# Altium integrated library Linear Technology Power Management LDO Linear Regulators.IntLib: 2339 symbols (part 124 of 131)
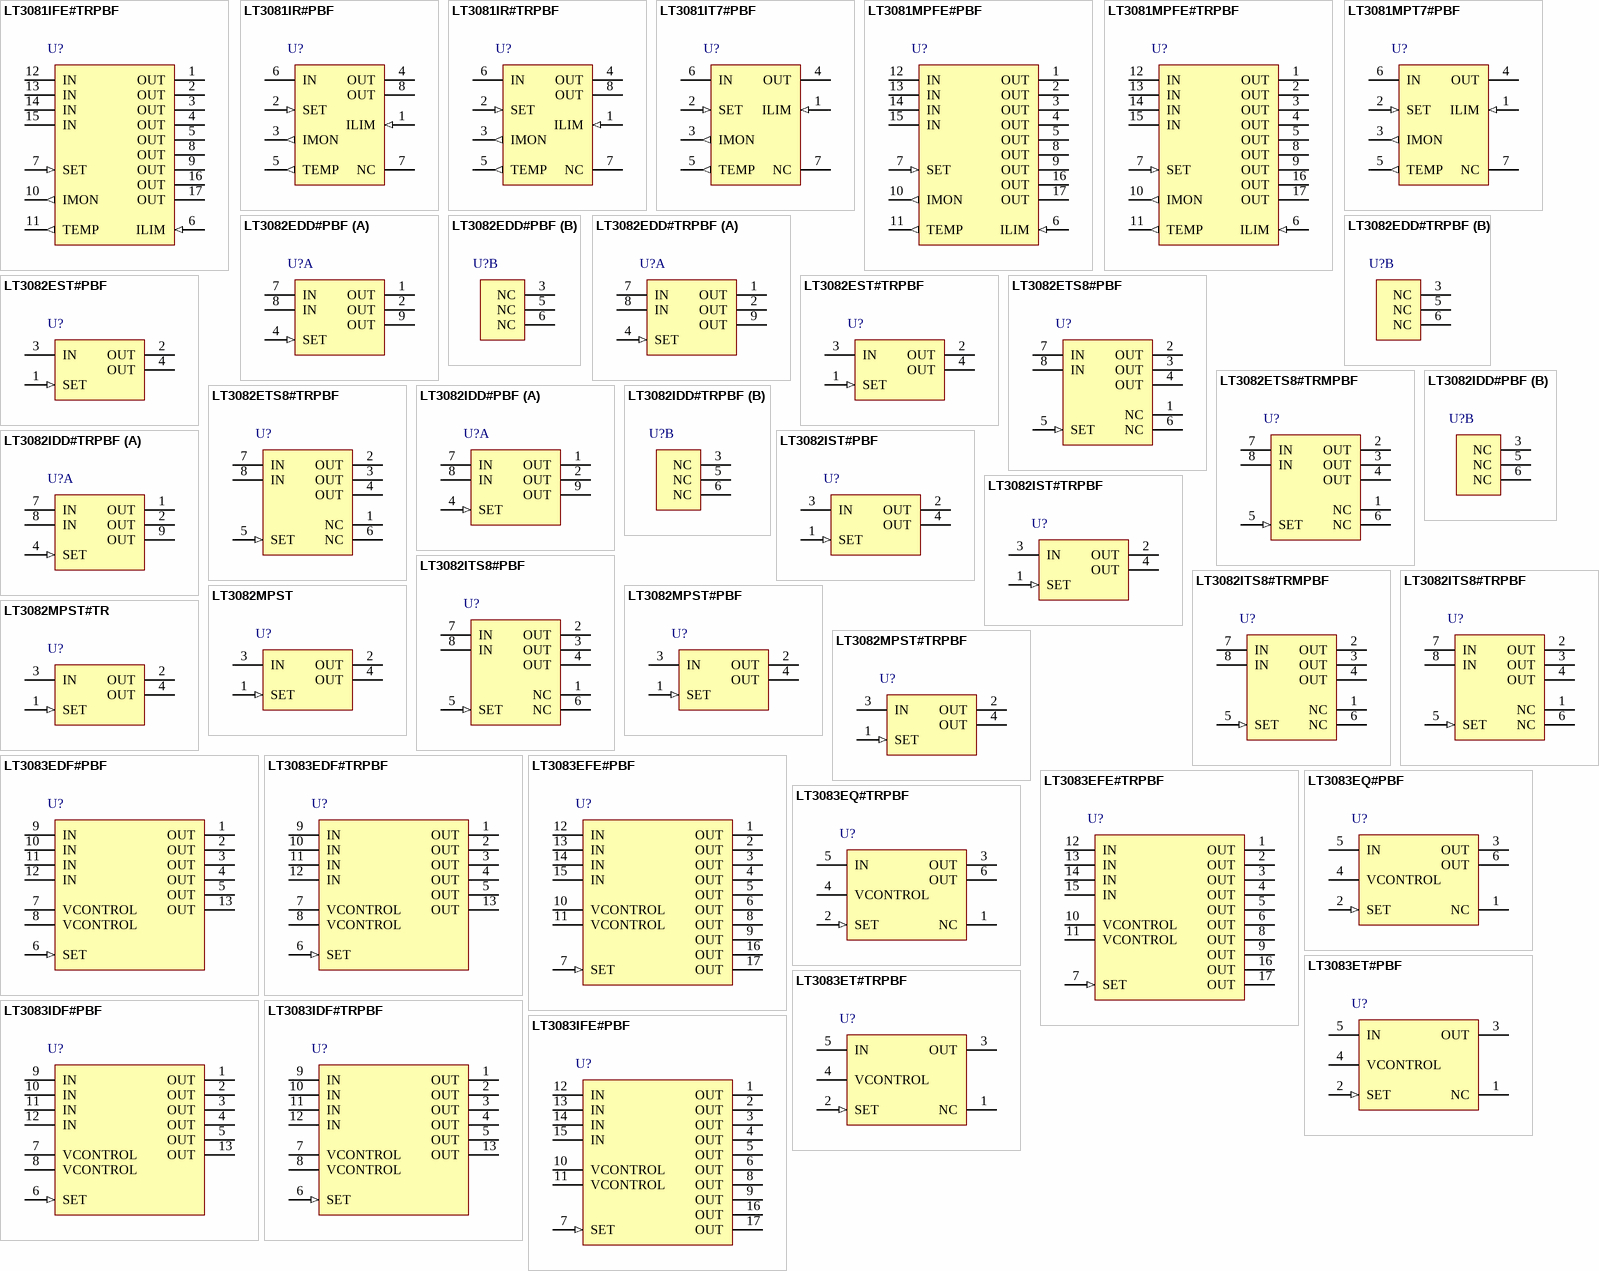
[diagram p192: symbols LT3081IFE#TRPBF to LT3083IFE#PBF]

## LT3083IFE#PBF
designator U?
3 A Single Resistor Low Dropout Regulator, 1.2 to 23 V Vin, Adjustable Vout, 16-pin SOP (FE-16-EPV-BB), -40 to 125 degC, Pb-Free; Manufacturer: Linear Technology; PartNumber: LT3083IFE#PBF; Discrete Pass Element: no; Dropout Voltage(V): 0.31; Iout(mA): 3000; Isupply(mA): 0.35; Noise(uV): 40; Number of Outputs: 1; Output Voltage: Adj; PSRR(dB): 85; Shutdown Current(uA): 0; Vin Max(V): 23; Vin Min(V): 1.2; DatasheetVersion: Rev. A; PackageVersion: Rev. J, 11/2012; PackageReference: FE-16; PackageDescription: 16-Pin Plastic TSSOP, Body 5 x 4.4 mm, Pitch 0.65 mm; Supplier 1: Digi-Key; Supplier Part Number 1: LT3083IFE#PBF-ND; RoHS: TRUE; Vout Max(V): 23; Vout Min(V): 0; Mounting Technology: Surface Mount; ComponentLink1Description: Manufacturer URL; ComponentLink1URL: http://www.linear.com/; ComponentLink2Description: Datasheet; ComponentLink2URL: http://cds.linear.com/docs/en/datasheet/3083fa.pdf; ComponentLink3Description: Package Specification; ComponentLink3URL: http://cds.linear.com/docs/en/packaging/05081663__J_FE16(BB).pdf
footprint LT-FE-16-EPV-BB_N (SOP, 16-Leads, Body 5.1x4.5mm, Pitch 0.65mm, Thermal Pad 3.58x2.94mm, IPC Medium Density)
footprint LT-FE-16-EPV-BB_L (SOP, 16-Leads, Body 5.1x4.5mm, Pitch 0.65mm, Thermal Pad 3.58x2.94mm, IPC High Density)
footprint LT-FE-16-EPV-BB_M (SOP, 16-Leads, Body 5.1x4.5mm, Pitch 0.65mm, Thermal Pad 3.58x2.94mm, IPC Low Density)
pins: 1 OUT (power) "Output. The exposed pad of the DF package (Pin 13) and the FE package (Pin 17) and the Tab of the DD-PAK and TO-220 packages is an electrical connection to OUT. Connect the exposed pad of the DF and FE packages and the Tab (See Datasheet)", 2 OUT (power) "Output. The exposed pad of the DF package (Pin 13) and the FE package (Pin 17) and the Tab of the DD-PAK and TO-220 packages is an electrical connection to OUT. Connect the exposed pad of the DF and FE packages and the Tab (See Datasheet)", 3 OUT (power) "Output. The exposed pad of the DF package (Pin 13) and the FE package (Pin 17) and the Tab of the DD-PAK and TO-220 packages is an electrical connection to OUT. Connect the exposed pad of the DF and FE packages and the Tab (See Datasheet)", 4 OUT (power) "Output. The exposed pad of the DF package (Pin 13) and the FE package (Pin 17) and the Tab of the DD-PAK and TO-220 packages is an electrical connection to OUT. Connect the exposed pad of the DF and FE packages and the Tab (See Datasheet)", 5 OUT (power) "Output. The exposed pad of the DF package (Pin 13) and the FE package (Pin 17) and the Tab of the DD-PAK and TO-220 packages is an electrical connection to OUT. Connect the exposed pad of the DF and FE packages and the Tab (See Datasheet)", 6 OUT (power) "Output. The exposed pad of the DF package (Pin 13) and the FE package (Pin 17) and the Tab of the DD-PAK and TO-220 packages is an electrical connection to OUT. Connect the exposed pad of the DF and FE packages and the Tab (See Datasheet)", 7 SET (in) "Set Point. This pin is the non-inverting input to the error amplifier and the regulation set point. A fixed current of 50uA flows out of this pin through a single external resistor, which programs the output voltage of the (See Datasheet)", 8 OUT (power) "Output. The exposed pad of the DF package (Pin 13) and the FE package (Pin 17) and the Tab of the DD-PAK and TO-220 packages is an electrical connection to OUT. Connect the exposed pad of the DF and FE packages and the Tab (See Datasheet)", 9 OUT (power) "Output. The exposed pad of the DF package (Pin 13) and the FE package (Pin 17) and the Tab of the DD-PAK and TO-220 packages is an electrical connection to OUT. Connect the exposed pad of the DF and FE packages and the Tab (See Datasheet)", 10 VCONTROL (power) "Bias Supply. This is the supply pin for the control circuitry of the device. Minimum input capacitance is 2.2uF (see Input Capacitance and Stability in the Applications Information section). The current flow into this pin is (See Datasheet)", 11 VCONTROL (power) "Bias Supply. This is the supply pin for the control circuitry of the device. Minimum input capacitance is 2.2uF (see Input Capacitance and Stability in the Applications Information section). The current flow into this pin is (See Datasheet)", 12 IN (power) "Power Input. This is the collector to the power device of the LT3083. The output load current is supplied through this pin. Minimum IN capacitance is 10uF (see Input Capacitance and Stability in Applications Information (See Datasheet)", 13 IN (power) "Power Input. This is the collector to the power device of the LT3083. The output load current is supplied through this pin. Minimum IN capacitance is 10uF (see Input Capacitance and Stability in Applications Information (See Datasheet)", 14 IN (power) "Power Input. This is the collector to the power device of the LT3083. The output load current is supplied through this pin. Minimum IN capacitance is 10uF (see Input Capacitance and Stability in Applications Information (See Datasheet)", 15 IN (power) "Power Input. This is the collector to the power device of the LT3083. The output load current is supplied through this pin. Minimum IN capacitance is 10uF (see Input Capacitance and Stability in Applications Information (See Datasheet)", 16 OUT (power) "Output. The exposed pad of the DF package (Pin 13) and the FE package (Pin 17) and the Tab of the DD-PAK and TO-220 packages is an electrical connection to OUT. Connect the exposed pad of the DF and FE packages and the Tab (See Datasheet)", 17 OUT (power) "Output. The exposed pad of the DF package (Pin 13) and the FE package (Pin 17) and the Tab of the DD-PAK and TO-220 packages is an electrical connection to OUT. Connect the exposed pad of the DF and FE packages and the Tab (See Datasheet)"

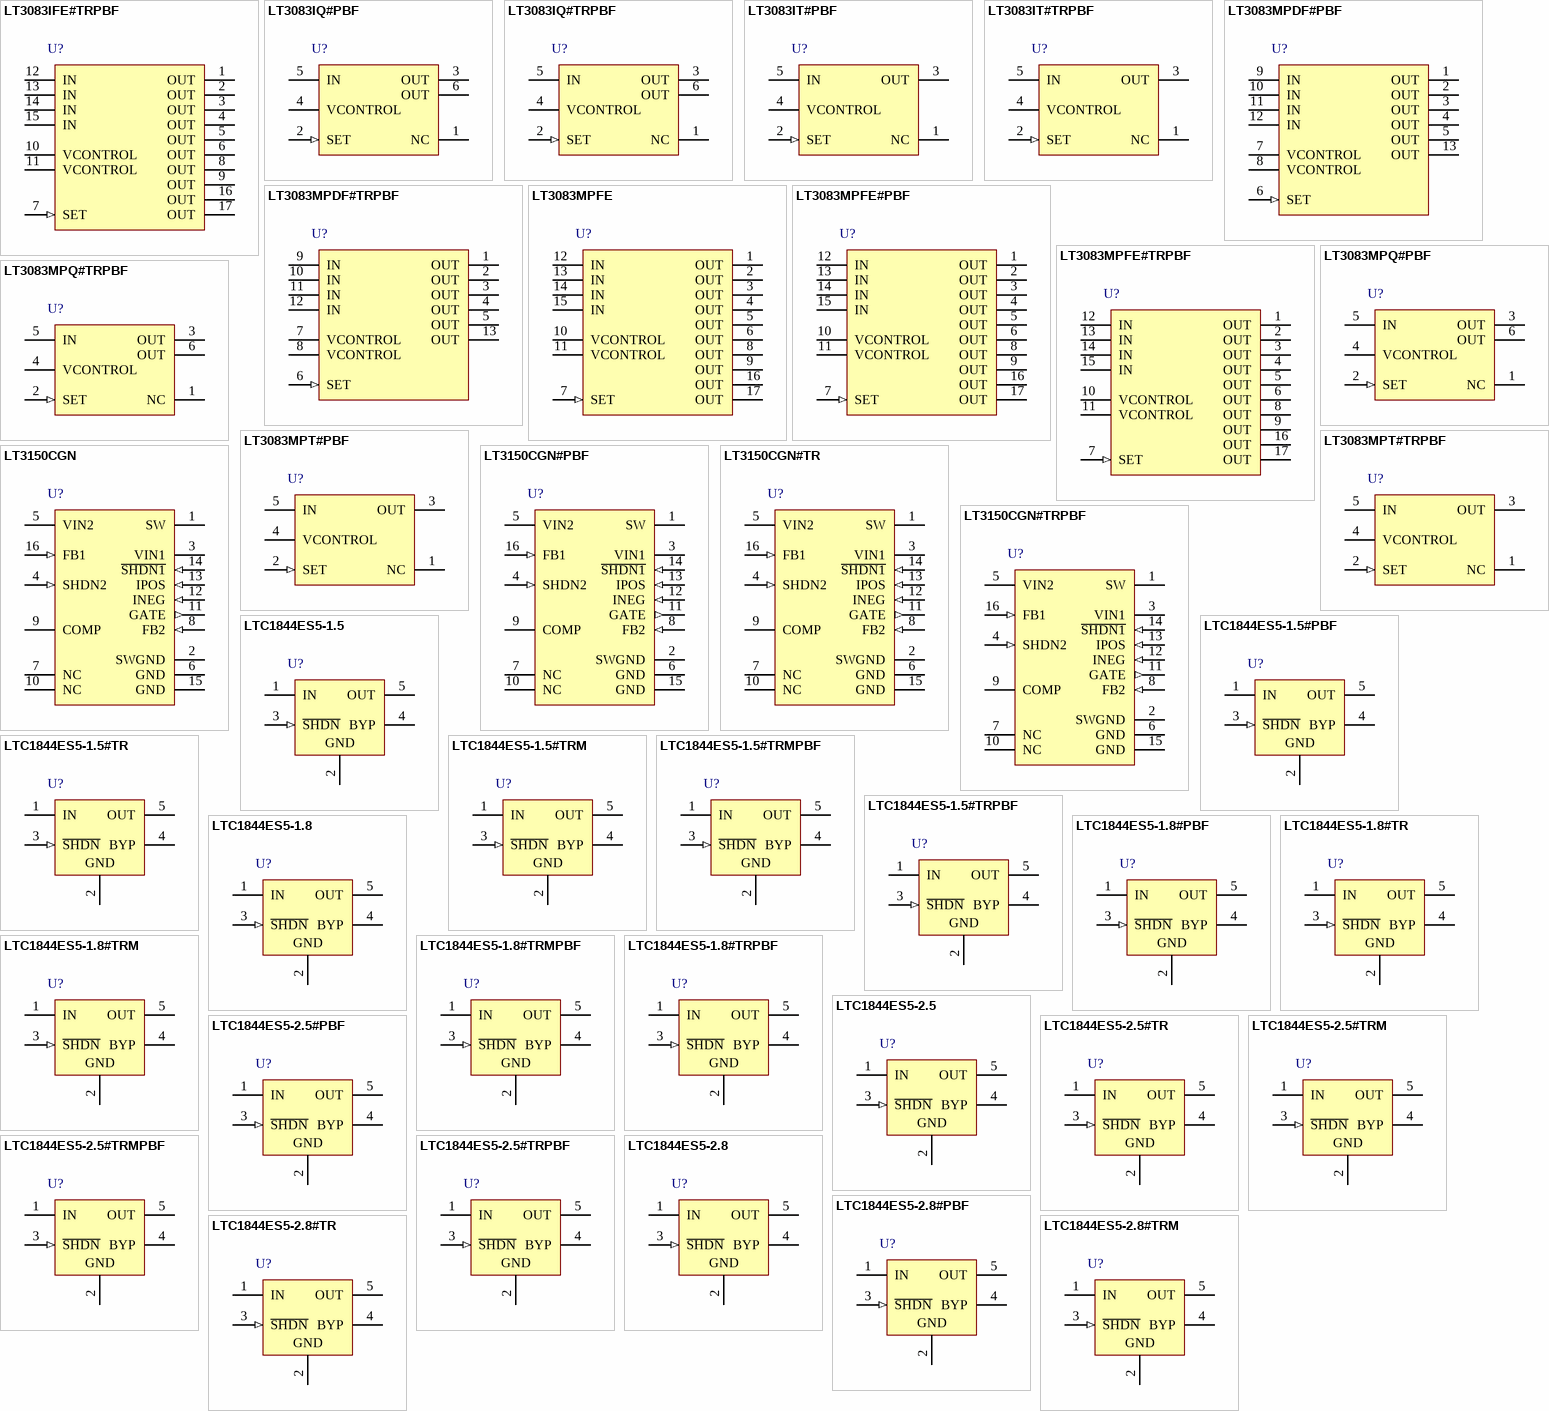
[diagram p66: symbols LT3083IFE#TRPBF to LTC1844ES5-2.8#TRM]

## LT3083IFE#TRPBF
designator U?
3 A Single Resistor Low Dropout Regulator, 1.2 to 23 V Vin, Adjustable Vout, 16-pin SOP (FE-16-EPV-BB), -40 to 125 degC, Pb-Free, Tape and Reel; Manufacturer: Linear Technology; PartNumber: LT3083IFE#TRPBF; Discrete Pass Element: no; Dropout Voltage(V): 0.31; Iout(mA): 3000; Isupply(mA): 0.35; Noise(uV): 40; Number of Outputs: 1; Output Voltage: Adj; PSRR(dB): 85; Shutdown Current(uA): 0; Vin Max(V): 23; Vin Min(V): 1.2; DatasheetVersion: Rev. A; PackageVersion: Rev. J, 11/2012; PackageReference: FE-16; PackageDescription: 16-Pin Plastic TSSOP, Body 5 x 4.4 mm, Pitch 0.65 mm; Supplier 1: Digi-Key; Supplier Part Number 1: LT3083IFE#TRPBF-ND; Packing: Tape and Reel; RoHS: TRUE; Vout Max(V): 23; Vout Min(V): 0; Mounting Technology: Surface Mount; ComponentLink1Description: Manufacturer URL; ComponentLink1URL: http://www.linear.com/; ComponentLink2Description: Datasheet; ComponentLink2URL: http://cds.linear.com/docs/en/datasheet/3083fa.pdf; ComponentLink3Description: Package Specification; ComponentLink3URL: http://cds.linear.com/docs/en/packaging/05081663__J_FE16(BB).pdf
footprint LT-FE-16-EPV-BB_N (SOP, 16-Leads, Body 5.1x4.5mm, Pitch 0.65mm, Thermal Pad 3.58x2.94mm, IPC Medium Density)
footprint LT-FE-16-EPV-BB_L (SOP, 16-Leads, Body 5.1x4.5mm, Pitch 0.65mm, Thermal Pad 3.58x2.94mm, IPC High Density)
footprint LT-FE-16-EPV-BB_M (SOP, 16-Leads, Body 5.1x4.5mm, Pitch 0.65mm, Thermal Pad 3.58x2.94mm, IPC Low Density)
pins: 1 OUT (power) "Output. The exposed pad of the DF package (Pin 13) and the FE package (Pin 17) and the Tab of the DD-PAK and TO-220 packages is an electrical connection to OUT. Connect the exposed pad of the DF and FE packages and the Tab (See Datasheet)", 2 OUT (power) "Output. The exposed pad of the DF package (Pin 13) and the FE package (Pin 17) and the Tab of the DD-PAK and TO-220 packages is an electrical connection to OUT. Connect the exposed pad of the DF and FE packages and the Tab (See Datasheet)", 3 OUT (power) "Output. The exposed pad of the DF package (Pin 13) and the FE package (Pin 17) and the Tab of the DD-PAK and TO-220 packages is an electrical connection to OUT. Connect the exposed pad of the DF and FE packages and the Tab (See Datasheet)", 4 OUT (power) "Output. The exposed pad of the DF package (Pin 13) and the FE package (Pin 17) and the Tab of the DD-PAK and TO-220 packages is an electrical connection to OUT. Connect the exposed pad of the DF and FE packages and the Tab (See Datasheet)", 5 OUT (power) "Output. The exposed pad of the DF package (Pin 13) and the FE package (Pin 17) and the Tab of the DD-PAK and TO-220 packages is an electrical connection to OUT. Connect the exposed pad of the DF and FE packages and the Tab (See Datasheet)", 6 OUT (power) "Output. The exposed pad of the DF package (Pin 13) and the FE package (Pin 17) and the Tab of the DD-PAK and TO-220 packages is an electrical connection to OUT. Connect the exposed pad of the DF and FE packages and the Tab (See Datasheet)", 7 SET (in) "Set Point. This pin is the non-inverting input to the error amplifier and the regulation set point. A fixed current of 50uA flows out of this pin through a single external resistor, which programs the output voltage of the (See Datasheet)", 8 OUT (power) "Output. The exposed pad of the DF package (Pin 13) and the FE package (Pin 17) and the Tab of the DD-PAK and TO-220 packages is an electrical connection to OUT. Connect the exposed pad of the DF and FE packages and the Tab (See Datasheet)", 9 OUT (power) "Output. The exposed pad of the DF package (Pin 13) and the FE package (Pin 17) and the Tab of the DD-PAK and TO-220 packages is an electrical connection to OUT. Connect the exposed pad of the DF and FE packages and the Tab (See Datasheet)", 10 VCONTROL (power) "Bias Supply. This is the supply pin for the control circuitry of the device. Minimum input capacitance is 2.2uF (see Input Capacitance and Stability in the Applications Information section). The current flow into this pin is (See Datasheet)", 11 VCONTROL (power) "Bias Supply. This is the supply pin for the control circuitry of the device. Minimum input capacitance is 2.2uF (see Input Capacitance and Stability in the Applications Information section). The current flow into this pin is (See Datasheet)", 12 IN (power) "Power Input. This is the collector to the power device of the LT3083. The output load current is supplied through this pin. Minimum IN capacitance is 10uF (see Input Capacitance and Stability in Applications Information (See Datasheet)", 13 IN (power) "Power Input. This is the collector to the power device of the LT3083. The output load current is supplied through this pin. Minimum IN capacitance is 10uF (see Input Capacitance and Stability in Applications Information (See Datasheet)", 14 IN (power) "Power Input. This is the collector to the power device of the LT3083. The output load current is supplied through this pin. Minimum IN capacitance is 10uF (see Input Capacitance and Stability in Applications Information (See Datasheet)", 15 IN (power) "Power Input. This is the collector to the power device of the LT3083. The output load current is supplied through this pin. Minimum IN capacitance is 10uF (see Input Capacitance and Stability in Applications Information (See Datasheet)", 16 OUT (power) "Output. The exposed pad of the DF package (Pin 13) and the FE package (Pin 17) and the Tab of the DD-PAK and TO-220 packages is an electrical connection to OUT. Connect the exposed pad of the DF and FE packages and the Tab (See Datasheet)", 17 OUT (power) "Output. The exposed pad of the DF package (Pin 13) and the FE package (Pin 17) and the Tab of the DD-PAK and TO-220 packages is an electrical connection to OUT. Connect the exposed pad of the DF and FE packages and the Tab (See Datasheet)"

## LT3083IQ#PBF
designator U?
3 A Single Resistor Low Dropout Regulator, 1.2 to 23 V Vin, Adjustable Vout, 5-pin DPAK (Q-5), -40 to 125 degC, Pb-Free; Manufacturer: Linear Technology; PartNumber: LT3083IQ#PBF; Discrete Pass Element: no; Dropout Voltage(V): 0.31; Iout(mA): 3000; Isupply(mA): 0.35; Noise(uV): 40; Number of Outputs: 1; Output Voltage: Adj; PSRR(dB): 85; Shutdown Current(uA): 0; Vin Max(V): 23; Vin Min(V): 1.2; DatasheetVersion: Rev. A; PackageVersion: Rev. F, 09/2011; PackageReference: Q-5; PackageDescription: 5-Pin Plastic DD Pak, Body 10.2235 x 8.89 mm, Pitch 1.702 mm; Supplier 1: Digi-Key; Supplier Part Number 1: LT3083IQ#PBF-ND; Supplier 2: Newark; Supplier Part Number 2: 27T4268; RoHS: TRUE; Vout Max(V): 23; Vout Min(V): 0; Mounting Technology: Surface Mount; ComponentLink1Description: Manufacturer URL; ComponentLink1URL: http://www.linear.com/; ComponentLink2Description: Datasheet; ComponentLink2URL: http://cds.linear.com/docs/en/datasheet/3083fa.pdf; ComponentLink3Description: Package Specification; ComponentLink3URL: http://cds.linear.com/docs/en/packaging/Q%20DD5%2005-08-1461%20Rev%20F.pdf
footprint LT-Q-5_N (DPAK, 5-Leads, Body 10.22x8.89mm, Pitch 1.702mm, IPC Medium Density)
footprint LT-Q-5_L (DPAK, 5-Leads, Body 10.22x8.89mm, Pitch 1.702mm, IPC High Density)
footprint LT-Q-5_M (DPAK, 5-Leads, Body 10.22x8.89mm, Pitch 1.702mm, IPC Low Density)
pins: 1 NC "No Connection. No Connect pins have no connection to internal circuitry and may be tied to VIN, VCONTROL, VOUT, GND, or floated.", 2 SET (in) "Set Point. This pin is the non-inverting input to the error amplifier and the regulation set point. A fixed current of 50uA flows out of this pin through a single external resistor, which programs the output voltage of the (See Datasheet)", 3 OUT (power) "Output. The exposed pad of the DF package (Pin 13) and the FE package (Pin 17) and the Tab of the DD-PAK and TO-220 packages is an electrical connection to OUT. Connect the exposed pad of the DF and FE packages and the Tab (See Datasheet)", 4 VCONTROL (power) "Bias Supply. This is the supply pin for the control circuitry of the device. Minimum input capacitance is 2.2uF (see Input Capacitance and Stability in the Applications Information section). The current flow into this pin is (See Datasheet)", 5 IN (power) "Power Input. This is the collector to the power device of the LT3083. The output load current is supplied through this pin. Minimum IN capacitance is 10uF (see Input Capacitance and Stability in Applications Information (See Datasheet)", 6 OUT (power) "TAB IS OUT."

## LT3083IQ#TRPBF
designator U?
3 A Single Resistor Low Dropout Regulator, 1.2 to 23 V Vin, Adjustable Vout, 5-pin DPAK (Q-5), -40 to 125 degC, Pb-Free, Tape and Reel; Manufacturer: Linear Technology; PartNumber: LT3083IQ#TRPBF; Discrete Pass Element: no; Dropout Voltage(V): 0.31; Iout(mA): 3000; Isupply(mA): 0.35; Noise(uV): 40; Number of Outputs: 1; Output Voltage: Adj; PSRR(dB): 85; Shutdown Current(uA): 0; Vin Max(V): 23; Vin Min(V): 1.2; DatasheetVersion: Rev. A; PackageVersion: Rev. F, 09/2011; PackageReference: Q-5; PackageDescription: 5-Pin Plastic DD Pak, Body 10.2235 x 8.89 mm, Pitch 1.702 mm; Supplier 1: Digi-Key; Supplier Part Number 1: LT3083IQ#TRPBF-ND; Packing: Tape and Reel; RoHS: TRUE; Vout Max(V): 23; Vout Min(V): 0; Mounting Technology: Surface Mount; ComponentLink1Description: Manufacturer URL; ComponentLink1URL: http://www.linear.com/; ComponentLink2Description: Datasheet; ComponentLink2URL: http://cds.linear.com/docs/en/datasheet/3083fa.pdf; ComponentLink3Description: Package Specification; ComponentLink3URL: http://cds.linear.com/docs/en/packaging/Q%20DD5%2005-08-1461%20Rev%20F.pdf
footprint LT-Q-5_N (DPAK, 5-Leads, Body 10.22x8.89mm, Pitch 1.702mm, IPC Medium Density)
footprint LT-Q-5_L (DPAK, 5-Leads, Body 10.22x8.89mm, Pitch 1.702mm, IPC High Density)
footprint LT-Q-5_M (DPAK, 5-Leads, Body 10.22x8.89mm, Pitch 1.702mm, IPC Low Density)
pins: 1 NC "No Connection. No Connect pins have no connection to internal circuitry and may be tied to VIN, VCONTROL, VOUT, GND, or floated.", 2 SET (in) "Set Point. This pin is the non-inverting input to the error amplifier and the regulation set point. A fixed current of 50uA flows out of this pin through a single external resistor, which programs the output voltage of the (See Datasheet)", 3 OUT (power) "Output. The exposed pad of the DF package (Pin 13) and the FE package (Pin 17) and the Tab of the DD-PAK and TO-220 packages is an electrical connection to OUT. Connect the exposed pad of the DF and FE packages and the Tab (See Datasheet)", 4 VCONTROL (power) "Bias Supply. This is the supply pin for the control circuitry of the device. Minimum input capacitance is 2.2uF (see Input Capacitance and Stability in the Applications Information section). The current flow into this pin is (See Datasheet)", 5 IN (power) "Power Input. This is the collector to the power device of the LT3083. The output load current is supplied through this pin. Minimum IN capacitance is 10uF (see Input Capacitance and Stability in Applications Information (See Datasheet)", 6 OUT (power) "TAB IS OUT."

## LT3083IT#PBF
designator U?
3 A Single Resistor Low Dropout Regulator, 1.2 to 23 V Vin, Adjustable Vout, 5-pin FM (T-5), -40 to 125 degC, Pb-Free; Manufacturer: Linear Technology; PartNumber: LT3083IT#PBF; Discrete Pass Element: no; Dropout Voltage(V): 0.31; Iout(mA): 3000; Isupply(mA): 0.35; Noise(uV): 40; Number of Outputs: 1; Output Voltage: Adj; PSRR(dB): 85; Shutdown Current(uA): 0; Vin Max(V): 23; Vin Min(V): 1.2; DatasheetVersion: Rev. A; PackageVersion: Aug-10; PackageReference: T-5; PackageDescription: 5-Pin Plastic TO-220 (Standard), Body 10.224 x 8.89 mm, Pitch 1.7 mm; Supplier 1: Digi-Key; Supplier Part Number 1: LT3083IT#PBF-ND; RoHS: TRUE; Vout Max(V): 23; Vout Min(V): 0; Mounting Technology: Through Hole; ComponentLink1Description: Manufacturer URL; ComponentLink1URL: http://www.linear.com/; ComponentLink2Description: Datasheet; ComponentLink2URL: http://cds.linear.com/docs/en/datasheet/3083fa.pdf; ComponentLink3Description: Package Specification; ComponentLink3URL: http://cds.linear.com/docs/en/packaging/TO-220_5_05-08-1421.pdf
footprint LT-T-5-S (FM, 5-Leads, Body 10.2235x4.3815mm, Pitch 1.7mm)
pins: 1 NC "No Connection. No Connect pins have no connection to internal circuitry and may be tied to VIN, VCONTROL, VOUT, GND, or floated.", 2 SET (in) "Set Point. This pin is the non-inverting input to the error amplifier and the regulation set point. A fixed current of 50uA flows out of this  pin through a single external resistor, which programs the output voltage of the (See Datasheet)", 3 OUT (power) "Output. The exposed pad of the DF package (Pin 13) and the FE package (Pin 17) and the Tab of the DD-PAK and TO-220 packages is an electrical connection to OUT. Connect the exposed pad of the DF and FE packages and the Tab (See Datasheet)", 4 VCONTROL (power) "Bias Supply. This is the supply pin for the control circuitry of the device. Minimum input capacitance is 2.2uF (see Input Capacitance and Stability in the Applications Information section). The current flow into this pin is (See Datasheet)", 5 IN (power) "Power Input. This is the collector to the power device of the LT3083. The output load current is supplied through this pin. Minimum IN capacitance is 10uF (see Input Capacitance and Stability in Applications Information (See Datasheet)"

## LT3083IT#TRPBF
designator U?
3 A Single Resistor Low Dropout Regulator, 1.2 to 23 V Vin, Adjustable Vout, 5-pin FM (T-5), -40 to 125 degC, Pb-Free, Tape and Reel; Manufacturer: Linear Technology; PartNumber: LT3083IT#TRPBF; Discrete Pass Element: no; Dropout Voltage(V): 0.31; Iout(mA): 3000; Isupply(mA): 0.35; Noise(uV): 40; Number of Outputs: 1; Output Voltage: Adj; PSRR(dB): 85; Shutdown Current(uA): 0; Vin Max(V): 23; Vin Min(V): 1.2; DatasheetVersion: Rev. A; PackageVersion: Aug-10; PackageReference: T-5; PackageDescription: 5-Pin Plastic TO-220 (Standard), Body 10.224 x 8.89 mm, Pitch 1.7 mm; Supplier 1: Digi-Key; Supplier Part Number 1: LT3083IT#TRPBF-ND; Packing: Tape and Reel; RoHS: TRUE; Vout Max(V): 23; Vout Min(V): 0; Mounting Technology: Through Hole; ComponentLink1Description: Manufacturer URL; ComponentLink1URL: http://www.linear.com/; ComponentLink2Description: Datasheet; ComponentLink2URL: http://cds.linear.com/docs/en/datasheet/3083fa.pdf; ComponentLink3Description: Package Specification; ComponentLink3URL: http://cds.linear.com/docs/en/packaging/TO-220_5_05-08-1421.pdf
footprint LT-T-5-S (FM, 5-Leads, Body 10.2235x4.3815mm, Pitch 1.7mm)
pins: 1 NC "No Connection. No Connect pins have no connection to internal circuitry and may be tied to VIN, VCONTROL, VOUT, GND, or floated.", 2 SET (in) "Set Point. This pin is the non-inverting input to the error amplifier and the regulation set point. A fixed current of 50uA flows out of this  pin through a single external resistor, which programs the output voltage of the (See Datasheet)", 3 OUT (power) "Output. The exposed pad of the DF package (Pin 13) and the FE package (Pin 17) and the Tab of the DD-PAK and TO-220 packages is an electrical connection to OUT. Connect the exposed pad of the DF and FE packages and the Tab (See Datasheet)", 4 VCONTROL (power) "Bias Supply. This is the supply pin for the control circuitry of the device. Minimum input capacitance is 2.2uF (see Input Capacitance and Stability in the Applications Information section). The current flow into this pin is (See Datasheet)", 5 IN (power) "Power Input. This is the collector to the power device of the LT3083. The output load current is supplied through this pin. Minimum IN capacitance is 10uF (see Input Capacitance and Stability in Applications Information (See Datasheet)"

## LT3083MPDF#PBF
designator U?
3 A Single Resistor Low Dropout Regulator, 1.2 to 23 V Vin, Adjustable Vout, 12-pin SON (DF-12), -55 to 125 degC, Pb-Free; Manufacturer: Linear Technology; PartNumber: LT3083MPDF#PBF; Discrete Pass Element: no; Dropout Voltage(V): 0.31; Iout(mA): 3000; Isupply(mA): 0.35; Noise(uV): 40; Number of Outputs: 1; Output Voltage: Adj; PSRR(dB): 85; Shutdown Current(uA): 0; Vin Max(V): 23; Vin Min(V): 1.2; DatasheetVersion: Rev. A; PackageVersion: Rev. Ø, 06/2010; PackageReference: DF-12; PackageDescription: 12-Pin Plastic DFN, Body 4 x 4 mm, Pitch 0.5 mm; Supplier 1: Digi-Key; Supplier Part Number 1: LT3083MPDF#PBF-ND; RoHS: TRUE; Vout Max(V): 23; Vout Min(V): 0; Mounting Technology: Surface Mount; Code_JEDEC: MO-220; ComponentLink1Description: Manufacturer URL; ComponentLink1URL: http://www.linear.com/; ComponentLink2Description: Datasheet; ComponentLink2URL: http://cds.linear.com/docs/en/datasheet/3083fa.pdf; ComponentLink3Description: Package Specification; ComponentLink3URL: http://cds.linear.com/docs/Packaging/DFN_12_05-08-1733.pdf
footprint LT-DF-12_V (SON, 12-Leads, Body 4x4mm, Pitch 0.5mm, Thermal Pad 2.65x3.38mm)
pins: 1 OUT (power) "Output. The exposed pad of the DF package (Pin 13) and the FE package (Pin 17) and the Tab of the DD-PAK and TO-220 packages is an electrical connection to OUT. Connect the exposed pad of the DF and FE packages and  the Tab (See Datasheet)", 2 OUT (power) "Output. The exposed pad of the DF package (Pin 13) and the FE package (Pin 17) and the Tab of the DD-PAK and TO-220 packages is an electrical connection to OUT. Connect the exposed pad of the DF and FE packages and  the Tab (See Datasheet)", 3 OUT (power) "Output. The exposed pad of the DF package (Pin 13) and the FE package (Pin 17) and the Tab of the DD-PAK and TO-220 packages is an electrical connection to OUT. Connect the exposed pad of the DF and FE packages and  the Tab (See Datasheet)", 4 OUT (power) "Output. The exposed pad of the DF package (Pin 13) and the FE package (Pin 17) and the Tab of the DD-PAK and TO-220 packages is an electrical connection to OUT. Connect the exposed pad of the DF and FE packages and  the Tab (See Datasheet)", 5 OUT (power) "Output. The exposed pad of the DF package (Pin 13) and the FE package (Pin 17) and the Tab of the DD-PAK and TO-220 packages is an electrical connection to OUT. Connect the exposed pad of the DF and FE packages and  the Tab (See Datasheet)", 6 SET (in) "Set Point. This pin is the non-inverting input to the error amplifier and the regulation set point. A fixed current of 50uA flows out of this  pin through a single external resistor, which programs the output voltage of the (See Datasheet)", 7 VCONTROL (power) "Bias Supply. This is the supply pin for the control circuitry of the device. Minimum input capacitance is 2.2uF (see Input Capacitance and Stability in the Applications Information  section). The current flow into this pin (See Datasheet)", 8 VCONTROL (power) "Bias Supply. This is the supply pin for the control circuitry of the device. Minimum input capacitance is 2.2uF (see Input Capacitance and Stability in the Applications Information  section). The current flow into this pin (See Datasheet)", 9 IN (power) "Power Input. This  is the collector to the power device of the LT3083. The output load current is supplied through this pin. Minimum IN capacitance is 10uF (see Input Capacitance and Stability in Applications Information (See Datasheet)", 10 IN (power) "Power Input. This  is the collector to the power device of the LT3083. The output load current is supplied through this pin. Minimum IN capacitance is 10uF (see Input Capacitance and Stability in Applications Information (See Datasheet)", 11 IN (power) "Power Input. This  is the collector to the power device of the LT3083. The output load current is supplied through this pin. Minimum IN capacitance is 10uF (see Input Capacitance and Stability in Applications Information (See Datasheet)", 12 IN (power) "Power Input. This  is the collector to the power device of the LT3083. The output load current is supplied through this pin. Minimum IN capacitance is 10uF (see Input Capacitance and Stability in Applications Information (See Datasheet)", 13 OUT (power) "Output. The exposed pad of the DF package (Pin 13) and the FE package (Pin 17) and the Tab of the DD-PAK and TO-220 packages is an electrical connection to OUT. Connect the exposed pad of the DF and FE packages and  the Tab (See Datasheet)"

## LT3083MPDF#TRPBF
designator U?
3 A Single Resistor Low Dropout Regulator, 1.2 to 23 V Vin, Adjustable Vout, 12-pin SON (DF-12), -55 to 125 degC, Pb-Free, Tape and Reel; Manufacturer: Linear Technology; PartNumber: LT3083MPDF#TRPBF; Discrete Pass Element: no; Dropout Voltage(V): 0.31; Iout(mA): 3000; Isupply(mA): 0.35; Noise(uV): 40; Number of Outputs: 1; Output Voltage: Adj; PSRR(dB): 85; Shutdown Current(uA): 0; Vin Max(V): 23; Vin Min(V): 1.2; DatasheetVersion: Rev. A; PackageVersion: Rev. Ø, 06/2010; PackageReference: DF-12; PackageDescription: 12-Pin Plastic DFN, Body 4 x 4 mm, Pitch 0.5 mm; Supplier 1: Digi-Key; Supplier Part Number 1: LT3083MPDF#TRPBF-ND; Packing: Tape and Reel; RoHS: TRUE; Vout Max(V): 23; Vout Min(V): 0; Mounting Technology: Surface Mount; Code_JEDEC: MO-220; ComponentLink1Description: Manufacturer URL; ComponentLink1URL: http://www.linear.com/; ComponentLink2Description: Datasheet; ComponentLink2URL: http://cds.linear.com/docs/en/datasheet/3083fa.pdf; ComponentLink3Description: Package Specification; ComponentLink3URL: http://cds.linear.com/docs/Packaging/DFN_12_05-08-1733.pdf
footprint LT-DF-12_V (SON, 12-Leads, Body 4x4mm, Pitch 0.5mm, Thermal Pad 2.65x3.38mm)
pins: 1 OUT (power) "Output. The exposed pad of the DF package (Pin 13) and the FE package (Pin 17) and the Tab of the DD-PAK and TO-220 packages is an electrical connection to OUT. Connect the exposed pad of the DF and FE packages and  the Tab (See Datasheet)", 2 OUT (power) "Output. The exposed pad of the DF package (Pin 13) and the FE package (Pin 17) and the Tab of the DD-PAK and TO-220 packages is an electrical connection to OUT. Connect the exposed pad of the DF and FE packages and  the Tab (See Datasheet)", 3 OUT (power) "Output. The exposed pad of the DF package (Pin 13) and the FE package (Pin 17) and the Tab of the DD-PAK and TO-220 packages is an electrical connection to OUT. Connect the exposed pad of the DF and FE packages and  the Tab (See Datasheet)", 4 OUT (power) "Output. The exposed pad of the DF package (Pin 13) and the FE package (Pin 17) and the Tab of the DD-PAK and TO-220 packages is an electrical connection to OUT. Connect the exposed pad of the DF and FE packages and  the Tab (See Datasheet)", 5 OUT (power) "Output. The exposed pad of the DF package (Pin 13) and the FE package (Pin 17) and the Tab of the DD-PAK and TO-220 packages is an electrical connection to OUT. Connect the exposed pad of the DF and FE packages and  the Tab (See Datasheet)", 6 SET (in) "Set Point. This pin is the non-inverting input to the error amplifier and the regulation set point. A fixed current of 50uA flows out of this  pin through a single external resistor, which programs the output voltage of the (See Datasheet)", 7 VCONTROL (power) "Bias Supply. This is the supply pin for the control circuitry of the device. Minimum input capacitance is 2.2uF (see Input Capacitance and Stability in the Applications Information  section). The current flow into this pin (See Datasheet)", 8 VCONTROL (power) "Bias Supply. This is the supply pin for the control circuitry of the device. Minimum input capacitance is 2.2uF (see Input Capacitance and Stability in the Applications Information  section). The current flow into this pin (See Datasheet)", 9 IN (power) "Power Input. This  is the collector to the power device of the LT3083. The output load current is supplied through this pin. Minimum IN capacitance is 10uF (see Input Capacitance and Stability in Applications Information (See Datasheet)", 10 IN (power) "Power Input. This  is the collector to the power device of the LT3083. The output load current is supplied through this pin. Minimum IN capacitance is 10uF (see Input Capacitance and Stability in Applications Information (See Datasheet)", 11 IN (power) "Power Input. This  is the collector to the power device of the LT3083. The output load current is supplied through this pin. Minimum IN capacitance is 10uF (see Input Capacitance and Stability in Applications Information (See Datasheet)", 12 IN (power) "Power Input. This  is the collector to the power device of the LT3083. The output load current is supplied through this pin. Minimum IN capacitance is 10uF (see Input Capacitance and Stability in Applications Information (See Datasheet)", 13 OUT (power) "Output. The exposed pad of the DF package (Pin 13) and the FE package (Pin 17) and the Tab of the DD-PAK and TO-220 packages is an electrical connection to OUT. Connect the exposed pad of the DF and FE packages and  the Tab (See Datasheet)"

## LT3083MPFE
designator U?
3 A Single Resistor Low Dropout Regulator, 1.2 to 23 V Vin, Adjustable Vout, 16-pin SOP (FE-16-EPV-BB), -55 to 125 degC; Manufacturer: Linear Technology; PartNumber: LT3083MPFE; Discrete Pass Element: no; Dropout Voltage(V): 0.31; Iout(mA): 3000; Isupply(mA): 0.35; Noise(uV): 40; Number of Outputs: 1; Output Voltage: Adj; PSRR(dB): 85; Shutdown Current(uA): 0; Vin Max(V): 23; Vin Min(V): 1.2; DatasheetVersion: Rev. A; PackageVersion: Rev. J, 11/2012; PackageReference: FE-16; PackageDescription: 16-Pin Plastic TSSOP, Body 5 x 4.4 mm, Pitch 0.65 mm; RoHS: FALSE; Vout Max(V): 23; Vout Min(V): 0; Mounting Technology: Surface Mount; ComponentLink1Description: Manufacturer URL; ComponentLink1URL: http://www.linear.com/; ComponentLink2Description: Datasheet; ComponentLink2URL: http://cds.linear.com/docs/en/datasheet/3083fa.pdf; ComponentLink3Description: Package Specification; ComponentLink3URL: http://cds.linear.com/docs/en/packaging/05081663__J_FE16(BB).pdf
footprint LT-FE-16-EPV-BB_N (SOP, 16-Leads, Body 5.1x4.5mm, Pitch 0.65mm, Thermal Pad 3.58x2.94mm, IPC Medium Density)
footprint LT-FE-16-EPV-BB_L (SOP, 16-Leads, Body 5.1x4.5mm, Pitch 0.65mm, Thermal Pad 3.58x2.94mm, IPC High Density)
footprint LT-FE-16-EPV-BB_M (SOP, 16-Leads, Body 5.1x4.5mm, Pitch 0.65mm, Thermal Pad 3.58x2.94mm, IPC Low Density)
pins: 1 OUT (power) "Output. The exposed pad of the DF package (Pin 13) and the FE package (Pin 17) and the Tab of the DD-PAK and TO-220 packages is an electrical connection to OUT. Connect the exposed pad of the DF and FE packages and the Tab (See Datasheet)", 2 OUT (power) "Output. The exposed pad of the DF package (Pin 13) and the FE package (Pin 17) and the Tab of the DD-PAK and TO-220 packages is an electrical connection to OUT. Connect the exposed pad of the DF and FE packages and the Tab (See Datasheet)", 3 OUT (power) "Output. The exposed pad of the DF package (Pin 13) and the FE package (Pin 17) and the Tab of the DD-PAK and TO-220 packages is an electrical connection to OUT. Connect the exposed pad of the DF and FE packages and the Tab (See Datasheet)", 4 OUT (power) "Output. The exposed pad of the DF package (Pin 13) and the FE package (Pin 17) and the Tab of the DD-PAK and TO-220 packages is an electrical connection to OUT. Connect the exposed pad of the DF and FE packages and the Tab (See Datasheet)", 5 OUT (power) "Output. The exposed pad of the DF package (Pin 13) and the FE package (Pin 17) and the Tab of the DD-PAK and TO-220 packages is an electrical connection to OUT. Connect the exposed pad of the DF and FE packages and the Tab (See Datasheet)", 6 OUT (power) "Output. The exposed pad of the DF package (Pin 13) and the FE package (Pin 17) and the Tab of the DD-PAK and TO-220 packages is an electrical connection to OUT. Connect the exposed pad of the DF and FE packages and the Tab (See Datasheet)", 7 SET (in) "Set Point. This pin is the non-inverting input to the error amplifier and the regulation set point. A fixed current of 50uA flows out of this pin through a single external resistor, which programs the output voltage of the (See Datasheet)", 8 OUT (power) "Output. The exposed pad of the DF package (Pin 13) and the FE package (Pin 17) and the Tab of the DD-PAK and TO-220 packages is an electrical connection to OUT. Connect the exposed pad of the DF and FE packages and the Tab (See Datasheet)", 9 OUT (power) "Output. The exposed pad of the DF package (Pin 13) and the FE package (Pin 17) and the Tab of the DD-PAK and TO-220 packages is an electrical connection to OUT. Connect the exposed pad of the DF and FE packages and the Tab (See Datasheet)", 10 VCONTROL (power) "Bias Supply. This is the supply pin for the control circuitry of the device. Minimum input capacitance is 2.2uF (see Input Capacitance and Stability in the Applications Information section). The current flow into this pin is (See Datasheet)", 11 VCONTROL (power) "Bias Supply. This is the supply pin for the control circuitry of the device. Minimum input capacitance is 2.2uF (see Input Capacitance and Stability in the Applications Information section). The current flow into this pin is (See Datasheet)", 12 IN (power) "Power Input. This is the collector to the power device of the LT3083. The output load current is supplied through this pin. Minimum IN capacitance is 10uF (see Input Capacitance and Stability in Applications Information (See Datasheet)", 13 IN (power) "Power Input. This is the collector to the power device of the LT3083. The output load current is supplied through this pin. Minimum IN capacitance is 10uF (see Input Capacitance and Stability in Applications Information (See Datasheet)", 14 IN (power) "Power Input. This is the collector to the power device of the LT3083. The output load current is supplied through this pin. Minimum IN capacitance is 10uF (see Input Capacitance and Stability in Applications Information (See Datasheet)", 15 IN (power) "Power Input. This is the collector to the power device of the LT3083. The output load current is supplied through this pin. Minimum IN capacitance is 10uF (see Input Capacitance and Stability in Applications Information (See Datasheet)", 16 OUT (power) "Output. The exposed pad of the DF package (Pin 13) and the FE package (Pin 17) and the Tab of the DD-PAK and TO-220 packages is an electrical connection to OUT. Connect the exposed pad of the DF and FE packages and the Tab (See Datasheet)", 17 OUT (power) "Output. The exposed pad of the DF package (Pin 13) and the FE package (Pin 17) and the Tab of the DD-PAK and TO-220 packages is an electrical connection to OUT. Connect the exposed pad of the DF and FE packages and the Tab (See Datasheet)"

## LT3083MPFE#PBF
designator U?
3 A Single Resistor Low Dropout Regulator, 1.2 to 23 V Vin, Adjustable Vout, 16-pin SOP (FE-16-EPV-BB), -55 to 125 degC, Pb-Free; Manufacturer: Linear Technology; PartNumber: LT3083MPFE#PBF; Discrete Pass Element: no; Dropout Voltage(V): 0.31; Iout(mA): 3000; Isupply(mA): 0.35; Noise(uV): 40; Number of Outputs: 1; Output Voltage: Adj; PSRR(dB): 85; Shutdown Current(uA): 0; Vin Max(V): 23; Vin Min(V): 1.2; DatasheetVersion: Rev. A; PackageVersion: Rev. J, 11/2012; PackageReference: FE-16; PackageDescription: 16-Pin Plastic TSSOP, Body 5 x 4.4 mm, Pitch 0.65 mm; Supplier 1: Digi-Key; Supplier Part Number 1: LT3083MPFE#PBF-ND; Supplier 2: Newark; Supplier Part Number 2: 27T4274; RoHS: TRUE; Vout Max(V): 23; Vout Min(V): 0; Mounting Technology: Surface Mount; ComponentLink1Description: Manufacturer URL; ComponentLink1URL: http://www.linear.com/; ComponentLink2Description: Datasheet; ComponentLink2URL: http://cds.linear.com/docs/en/datasheet/3083fa.pdf; ComponentLink3Description: Package Specification; ComponentLink3URL: http://cds.linear.com/docs/en/packaging/05081663__J_FE16(BB).pdf
footprint LT-FE-16-EPV-BB_N (SOP, 16-Leads, Body 5.1x4.5mm, Pitch 0.65mm, Thermal Pad 3.58x2.94mm, IPC Medium Density)
footprint LT-FE-16-EPV-BB_L (SOP, 16-Leads, Body 5.1x4.5mm, Pitch 0.65mm, Thermal Pad 3.58x2.94mm, IPC High Density)
footprint LT-FE-16-EPV-BB_M (SOP, 16-Leads, Body 5.1x4.5mm, Pitch 0.65mm, Thermal Pad 3.58x2.94mm, IPC Low Density)
pins: 1 OUT (power) "Output. The exposed pad of the DF package (Pin 13) and the FE package (Pin 17) and the Tab of the DD-PAK and TO-220 packages is an electrical connection to OUT. Connect the exposed pad of the DF and FE packages and the Tab (See Datasheet)", 2 OUT (power) "Output. The exposed pad of the DF package (Pin 13) and the FE package (Pin 17) and the Tab of the DD-PAK and TO-220 packages is an electrical connection to OUT. Connect the exposed pad of the DF and FE packages and the Tab (See Datasheet)", 3 OUT (power) "Output. The exposed pad of the DF package (Pin 13) and the FE package (Pin 17) and the Tab of the DD-PAK and TO-220 packages is an electrical connection to OUT. Connect the exposed pad of the DF and FE packages and the Tab (See Datasheet)", 4 OUT (power) "Output. The exposed pad of the DF package (Pin 13) and the FE package (Pin 17) and the Tab of the DD-PAK and TO-220 packages is an electrical connection to OUT. Connect the exposed pad of the DF and FE packages and the Tab (See Datasheet)", 5 OUT (power) "Output. The exposed pad of the DF package (Pin 13) and the FE package (Pin 17) and the Tab of the DD-PAK and TO-220 packages is an electrical connection to OUT. Connect the exposed pad of the DF and FE packages and the Tab (See Datasheet)", 6 OUT (power) "Output. The exposed pad of the DF package (Pin 13) and the FE package (Pin 17) and the Tab of the DD-PAK and TO-220 packages is an electrical connection to OUT. Connect the exposed pad of the DF and FE packages and the Tab (See Datasheet)", 7 SET (in) "Set Point. This pin is the non-inverting input to the error amplifier and the regulation set point. A fixed current of 50uA flows out of this pin through a single external resistor, which programs the output voltage of the (See Datasheet)", 8 OUT (power) "Output. The exposed pad of the DF package (Pin 13) and the FE package (Pin 17) and the Tab of the DD-PAK and TO-220 packages is an electrical connection to OUT. Connect the exposed pad of the DF and FE packages and the Tab (See Datasheet)", 9 OUT (power) "Output. The exposed pad of the DF package (Pin 13) and the FE package (Pin 17) and the Tab of the DD-PAK and TO-220 packages is an electrical connection to OUT. Connect the exposed pad of the DF and FE packages and the Tab (See Datasheet)", 10 VCONTROL (power) "Bias Supply. This is the supply pin for the control circuitry of the device. Minimum input capacitance is 2.2uF (see Input Capacitance and Stability in the Applications Information section). The current flow into this pin is (See Datasheet)", 11 VCONTROL (power) "Bias Supply. This is the supply pin for the control circuitry of the device. Minimum input capacitance is 2.2uF (see Input Capacitance and Stability in the Applications Information section). The current flow into this pin is (See Datasheet)", 12 IN (power) "Power Input. This is the collector to the power device of the LT3083. The output load current is supplied through this pin. Minimum IN capacitance is 10uF (see Input Capacitance and Stability in Applications Information (See Datasheet)", 13 IN (power) "Power Input. This is the collector to the power device of the LT3083. The output load current is supplied through this pin. Minimum IN capacitance is 10uF (see Input Capacitance and Stability in Applications Information (See Datasheet)", 14 IN (power) "Power Input. This is the collector to the power device of the LT3083. The output load current is supplied through this pin. Minimum IN capacitance is 10uF (see Input Capacitance and Stability in Applications Information (See Datasheet)", 15 IN (power) "Power Input. This is the collector to the power device of the LT3083. The output load current is supplied through this pin. Minimum IN capacitance is 10uF (see Input Capacitance and Stability in Applications Information (See Datasheet)", 16 OUT (power) "Output. The exposed pad of the DF package (Pin 13) and the FE package (Pin 17) and the Tab of the DD-PAK and TO-220 packages is an electrical connection to OUT. Connect the exposed pad of the DF and FE packages and the Tab (See Datasheet)", 17 OUT (power) "Output. The exposed pad of the DF package (Pin 13) and the FE package (Pin 17) and the Tab of the DD-PAK and TO-220 packages is an electrical connection to OUT. Connect the exposed pad of the DF and FE packages and the Tab (See Datasheet)"

## LT3083MPFE#TRPBF
designator U?
3 A Single Resistor Low Dropout Regulator, 1.2 to 23 V Vin, Adjustable Vout, 16-pin SOP (FE-16-EPV-BB), -55 to 125 degC, Pb-Free, Tape and Reel; Manufacturer: Linear Technology; PartNumber: LT3083MPFE#TRPBF; Discrete Pass Element: no; Dropout Voltage(V): 0.31; Iout(mA): 3000; Isupply(mA): 0.35; Noise(uV): 40; Number of Outputs: 1; Output Voltage: Adj; PSRR(dB): 85; Shutdown Current(uA): 0; Vin Max(V): 23; Vin Min(V): 1.2; DatasheetVersion: Rev. A; PackageVersion: Rev. J, 11/2012; PackageReference: FE-16; PackageDescription: 16-Pin Plastic TSSOP, Body 5 x 4.4 mm, Pitch 0.65 mm; Supplier 1: Digi-Key; Supplier Part Number 1: LT3083MPFE#TRPBF-ND; Supplier 2: Newark; Supplier Part Number 2: 27T4275; Packing: Tape and Reel; RoHS: TRUE; Vout Max(V): 23; Vout Min(V): 0; Mounting Technology: Surface Mount; ComponentLink1Description: Manufacturer URL; ComponentLink1URL: http://www.linear.com/; ComponentLink2Description: Datasheet; ComponentLink2URL: http://cds.linear.com/docs/en/datasheet/3083fa.pdf; ComponentLink3Description: Package Specification; ComponentLink3URL: http://cds.linear.com/docs/en/packaging/05081663__J_FE16(BB).pdf
footprint LT-FE-16-EPV-BB_N (SOP, 16-Leads, Body 5.1x4.5mm, Pitch 0.65mm, Thermal Pad 3.58x2.94mm, IPC Medium Density)
footprint LT-FE-16-EPV-BB_L (SOP, 16-Leads, Body 5.1x4.5mm, Pitch 0.65mm, Thermal Pad 3.58x2.94mm, IPC High Density)
footprint LT-FE-16-EPV-BB_M (SOP, 16-Leads, Body 5.1x4.5mm, Pitch 0.65mm, Thermal Pad 3.58x2.94mm, IPC Low Density)
pins: 1 OUT (power) "Output. The exposed pad of the DF package (Pin 13) and the FE package (Pin 17) and the Tab of the DD-PAK and TO-220 packages is an electrical connection to OUT. Connect the exposed pad of the DF and FE packages and the Tab (See Datasheet)", 2 OUT (power) "Output. The exposed pad of the DF package (Pin 13) and the FE package (Pin 17) and the Tab of the DD-PAK and TO-220 packages is an electrical connection to OUT. Connect the exposed pad of the DF and FE packages and the Tab (See Datasheet)", 3 OUT (power) "Output. The exposed pad of the DF package (Pin 13) and the FE package (Pin 17) and the Tab of the DD-PAK and TO-220 packages is an electrical connection to OUT. Connect the exposed pad of the DF and FE packages and the Tab (See Datasheet)", 4 OUT (power) "Output. The exposed pad of the DF package (Pin 13) and the FE package (Pin 17) and the Tab of the DD-PAK and TO-220 packages is an electrical connection to OUT. Connect the exposed pad of the DF and FE packages and the Tab (See Datasheet)", 5 OUT (power) "Output. The exposed pad of the DF package (Pin 13) and the FE package (Pin 17) and the Tab of the DD-PAK and TO-220 packages is an electrical connection to OUT. Connect the exposed pad of the DF and FE packages and the Tab (See Datasheet)", 6 OUT (power) "Output. The exposed pad of the DF package (Pin 13) and the FE package (Pin 17) and the Tab of the DD-PAK and TO-220 packages is an electrical connection to OUT. Connect the exposed pad of the DF and FE packages and the Tab (See Datasheet)", 7 SET (in) "Set Point. This pin is the non-inverting input to the error amplifier and the regulation set point. A fixed current of 50uA flows out of this pin through a single external resistor, which programs the output voltage of the (See Datasheet)", 8 OUT (power) "Output. The exposed pad of the DF package (Pin 13) and the FE package (Pin 17) and the Tab of the DD-PAK and TO-220 packages is an electrical connection to OUT. Connect the exposed pad of the DF and FE packages and the Tab (See Datasheet)", 9 OUT (power) "Output. The exposed pad of the DF package (Pin 13) and the FE package (Pin 17) and the Tab of the DD-PAK and TO-220 packages is an electrical connection to OUT. Connect the exposed pad of the DF and FE packages and the Tab (See Datasheet)", 10 VCONTROL (power) "Bias Supply. This is the supply pin for the control circuitry of the device. Minimum input capacitance is 2.2uF (see Input Capacitance and Stability in the Applications Information section). The current flow into this pin is (See Datasheet)", 11 VCONTROL (power) "Bias Supply. This is the supply pin for the control circuitry of the device. Minimum input capacitance is 2.2uF (see Input Capacitance and Stability in the Applications Information section). The current flow into this pin is (See Datasheet)", 12 IN (power) "Power Input. This is the collector to the power device of the LT3083. The output load current is supplied through this pin. Minimum IN capacitance is 10uF (see Input Capacitance and Stability in Applications Information (See Datasheet)", 13 IN (power) "Power Input. This is the collector to the power device of the LT3083. The output load current is supplied through this pin. Minimum IN capacitance is 10uF (see Input Capacitance and Stability in Applications Information (See Datasheet)", 14 IN (power) "Power Input. This is the collector to the power device of the LT3083. The output load current is supplied through this pin. Minimum IN capacitance is 10uF (see Input Capacitance and Stability in Applications Information (See Datasheet)", 15 IN (power) "Power Input. This is the collector to the power device of the LT3083. The output load current is supplied through this pin. Minimum IN capacitance is 10uF (see Input Capacitance and Stability in Applications Information (See Datasheet)", 16 OUT (power) "Output. The exposed pad of the DF package (Pin 13) and the FE package (Pin 17) and the Tab of the DD-PAK and TO-220 packages is an electrical connection to OUT. Connect the exposed pad of the DF and FE packages and the Tab (See Datasheet)", 17 OUT (power) "Output. The exposed pad of the DF package (Pin 13) and the FE package (Pin 17) and the Tab of the DD-PAK and TO-220 packages is an electrical connection to OUT. Connect the exposed pad of the DF and FE packages and the Tab (See Datasheet)"